# EAGLE library part 68800711722 (library Wire-to-Board (rev18a))
WR-WTB 2.50mm "J"Type Male Horizontal Shrouded Header, 7 Pins=>Code : WTB_2.50-J_PCB_THT_68800711722 <http://katalog.we-online.de/media/thumbs2/eican/thb_Con_WTB_2.50-J_PCB_THT_6880xx11722_pf2%20(2).jpg> Details see: http://katalog.we-online.de/en/em/WTB_2_50_J_TYPE_HORIZONTAL_MALE_SHROUDED_HEADER_6880XX11722 Created 2014-06-05, Karrer Zheng 2014 (C) Würth Elektronik
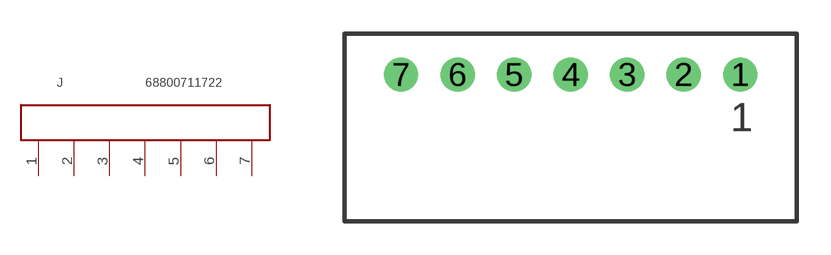
[diagram p19: symbol with the pads of 68800711722; footprint 68800711722]

Designator prefix J

## 68800711722  [68800711722]
1  7  pas
2  6  pas
3  5  pas
4  4  pas
5  3  pas
6  2  pas
7  1  pas

## Footprint 68800711722 (pad centres in mm)
WR-WTB 2.50mm "J" Type Male Horizontal Shrouded Header, 7 Pins
drill 1: 1 7.5,2.35; 2 5,2.35; 3 2.5,2.35; 4 0,2.35; 5 -2.5,2.35; 6 -5,2.35; 7 -7.5,2.35